# Altium schematic symbol library jlcpcb_2025_04_inductors_extended_1210.schlib: 422 symbols (part 8 of 8)
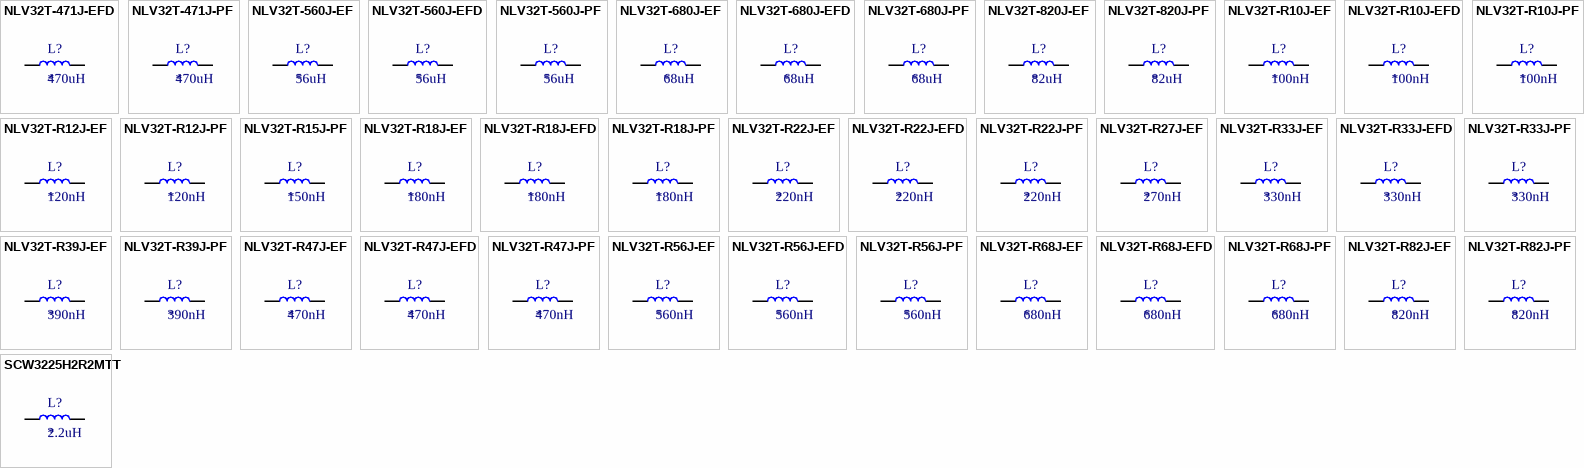
[diagram p17: symbols NLV32T-471J-EFD to SCW3225H2R2MTT]

## NLV32T-R27J-EF
designator L?  Inductance: 270nH
Inductor, 270nH, ±5%, 360mΩ, 450mA, SMD 1210; Manufacturer: TDK; Manufacturer Part Number: NLV32T-R27J-EF; Self-Resonant Frequency: 320MHz; Q Factor: 30@25.2MHz; Package Size: 1210; JLCPCB Basic Part: No; JLCPCB Part Number: C295167; Supplier 1: LCSC; Category: Inductors; Supplier Part Number 1: C295167; Tolerance: ±5%; Rated Current: 450mA; DC Resistance: 360mΩ; RoHS: Yes; ComponentLink1Description: Datasheet; ComponentLink1URL: https://wmsc.lcsc.com/wmsc/upload/file/pdf/v2/lcsc/2304140030_TDK-NLV32T-R27J-EF_C295167.pdf; ComponentLink2Description: JLCPCB Part URL; ComponentLink2URL: https://jlcpcb.com/partdetail/C295167; ComponentLink3Description: LCSC Part URL; ComponentLink3URL: https://lcsc.com/product-detail/Inductors-SMD_TDK-TDK-NLV32T-R27J-EF_C295167.html
footprint IND-1210 (1210 (3225M) Inductor)
pins: 1, 2

## NLV32T-R33J-EF
designator L?  Inductance: 330nH
Inductor, 330nH, ±5%, 400mΩ, 450mA, SMD 1210; Manufacturer: TDK; Manufacturer Part Number: NLV32T-R33J-EF; Self-Resonant Frequency: 300MHz; Q Factor: 30@25.2MHz; Package Size: 1210; JLCPCB Basic Part: No; JLCPCB Part Number: C295150; Supplier 1: LCSC; Category: Inductors; Supplier Part Number 1: C295150; Tolerance: ±5%; Rated Current: 450mA; DC Resistance: 400mΩ; RoHS: Yes; ComponentLink1Description: Datasheet; ComponentLink1URL: https://wmsc.lcsc.com/wmsc/upload/file/pdf/v2/lcsc/2304140030_TDK-NLV32T-R33J-EF_C295150.pdf; ComponentLink2Description: JLCPCB Part URL; ComponentLink2URL: https://jlcpcb.com/partdetail/C295150; ComponentLink3Description: LCSC Part URL; ComponentLink3URL: https://lcsc.com/product-detail/Inductors-SMD_TDK-TDK-NLV32T-R33J-EF_C295150.html
footprint IND-1210 (1210 (3225M) Inductor)
pins: 1, 2

## NLV32T-R33J-EFD
designator L?  Inductance: 330nH
Inductor, 330nH, ±5%, 400mΩ, 450mA, SMD 1210; Manufacturer: TDK; Manufacturer Part Number: NLV32T-R33J-EFD; Self-Resonant Frequency: 300MHz; Q Factor: 30@25.2MHz; Package Size: 1210; JLCPCB Basic Part: No; JLCPCB Part Number: C295307; Supplier 1: LCSC; Category: Inductors; Supplier Part Number 1: C295307; Tolerance: ±5%; Rated Current: 450mA; DC Resistance: 400mΩ; RoHS: Yes; ComponentLink1Description: Datasheet; ComponentLink1URL: https://wmsc.lcsc.com/wmsc/upload/file/pdf/v2/lcsc/2304140030_TDK-NLV32T-R33J-EFD_C295307.pdf; ComponentLink2Description: JLCPCB Part URL; ComponentLink2URL: https://jlcpcb.com/partdetail/C295307; ComponentLink3Description: LCSC Part URL; ComponentLink3URL: https://lcsc.com/product-detail/Inductors-SMD_TDK-TDK-NLV32T-R33J-EFD_C295307.html
footprint IND-1210 (1210 (3225M) Inductor)
pins: 1, 2

## NLV32T-R33J-PF
designator L?  Inductance: 330nH
Inductor, 330nH, ±5%, 400mΩ, 450mA, SMD 1210; Manufacturer: TDK; Manufacturer Part Number: NLV32T-R33J-PF; Self-Resonant Frequency: 300MHz; Q Factor: 30@25.2MHz; Package Size: 1210; JLCPCB Basic Part: No; JLCPCB Part Number: C250175; Supplier 1: LCSC; Category: Inductors; Supplier Part Number 1: C250175; Tolerance: ±5%; Rated Current: 450mA; DC Resistance: 400mΩ; RoHS: Yes; ComponentLink1Description: Datasheet; ComponentLink1URL: https://wmsc.lcsc.com/wmsc/upload/file/pdf/v2/lcsc/2304140030_TDK-NLV32T-R33J-PF_C250175.pdf; ComponentLink2Description: JLCPCB Part URL; ComponentLink2URL: https://jlcpcb.com/partdetail/C250175; ComponentLink3Description: LCSC Part URL; ComponentLink3URL: https://lcsc.com/product-detail/Inductors-SMD_TDK-TDK-NLV32T-R33J-PF_C250175.html
footprint IND-1210 (1210 (3225M) Inductor)
pins: 1, 2

## NLV32T-R39J-EF
designator L?  Inductance: 390nH
Inductor, 390nH, ±5%, 450mΩ, 450mA, SMD 1210; Manufacturer: TDK; Manufacturer Part Number: NLV32T-R39J-EF; Self-Resonant Frequency: 250MHz; Q Factor: 30@25.2MHz; Package Size: 1210; JLCPCB Basic Part: No; JLCPCB Part Number: C295121; Supplier 1: LCSC; Category: Inductors; Supplier Part Number 1: C295121; Tolerance: ±5%; Rated Current: 450mA; DC Resistance: 450mΩ; RoHS: Yes; ComponentLink1Description: Datasheet; ComponentLink1URL: https://wmsc.lcsc.com/wmsc/upload/file/pdf/v2/lcsc/2304140030_TDK-NLV32T-R39J-EF_C295121.pdf; ComponentLink2Description: JLCPCB Part URL; ComponentLink2URL: https://jlcpcb.com/partdetail/C295121; ComponentLink3Description: LCSC Part URL; ComponentLink3URL: https://lcsc.com/product-detail/Inductors-SMD_TDK-TDK-NLV32T-R39J-EF_C295121.html
footprint IND-1210 (1210 (3225M) Inductor)
pins: 1, 2

## NLV32T-R39J-PF
designator L?  Inductance: 390nH
Inductor, 390nH, ±5%, 450mΩ, 450mA, SMD 1210; Manufacturer: TDK; Manufacturer Part Number: NLV32T-R39J-PF; Self-Resonant Frequency: 250MHz; Q Factor: 30@25.2MHz; Package Size: 1210; JLCPCB Basic Part: No; JLCPCB Part Number: C89028; Supplier 1: LCSC; Category: Inductors; Supplier Part Number 1: C89028; Tolerance: ±5%; Rated Current: 450mA; DC Resistance: 450mΩ; RoHS: Yes; ComponentLink1Description: Datasheet; ComponentLink1URL: https://wmsc.lcsc.com/wmsc/upload/file/pdf/v2/lcsc/2304140030_TDK-NLV32T-R39J-PF_C89028.pdf; ComponentLink2Description: JLCPCB Part URL; ComponentLink2URL: https://jlcpcb.com/partdetail/C89028; ComponentLink3Description: LCSC Part URL; ComponentLink3URL: https://lcsc.com/product-detail/Inductors-SMD_TDK-TDK-NLV32T-R39J-PF_C89028.html
footprint IND-1210 (1210 (3225M) Inductor)
pins: 1, 2

## NLV32T-R47J-EF
designator L?  Inductance: 470nH
Inductor, 470nH, ±5%, 500mΩ, 450mA, SMD 1210; Manufacturer: TDK; Manufacturer Part Number: NLV32T-R47J-EF; Self-Resonant Frequency: 220MHz; Q Factor: 30@25.2MHz; Package Size: 1210; JLCPCB Basic Part: No; JLCPCB Part Number: C295151; Supplier 1: LCSC; Category: Inductors; Supplier Part Number 1: C295151; Tolerance: ±5%; Rated Current: 450mA; DC Resistance: 500mΩ; RoHS: Yes; ComponentLink1Description: Datasheet; ComponentLink1URL: https://wmsc.lcsc.com/wmsc/upload/file/pdf/v2/lcsc/2304140030_TDK-NLV32T-R47J-EF_C295151.pdf; ComponentLink2Description: JLCPCB Part URL; ComponentLink2URL: https://jlcpcb.com/partdetail/C295151; ComponentLink3Description: LCSC Part URL; ComponentLink3URL: https://lcsc.com/product-detail/Inductors-SMD_TDK-TDK-NLV32T-R47J-EF_C295151.html
footprint IND-1210 (1210 (3225M) Inductor)
pins: 1, 2

## NLV32T-R47J-EFD
designator L?  Inductance: 470nH
Inductor, 470nH, ±5%, 500mΩ, 450mA, SMD 1210; Manufacturer: TDK; Manufacturer Part Number: NLV32T-R47J-EFD; Self-Resonant Frequency: 220MHz; Q Factor: 30@25.2MHz; Package Size: 1210; JLCPCB Basic Part: No; JLCPCB Part Number: C295221; Supplier 1: LCSC; Category: Inductors; Supplier Part Number 1: C295221; Tolerance: ±5%; Rated Current: 450mA; DC Resistance: 500mΩ; RoHS: Yes; ComponentLink1Description: Datasheet; ComponentLink1URL: https://wmsc.lcsc.com/wmsc/upload/file/pdf/v2/lcsc/2304140030_TDK-NLV32T-R47J-EFD_C295221.pdf; ComponentLink2Description: JLCPCB Part URL; ComponentLink2URL: https://jlcpcb.com/partdetail/C295221; ComponentLink3Description: LCSC Part URL; ComponentLink3URL: https://lcsc.com/product-detail/Inductors-SMD_TDK-TDK-NLV32T-R47J-EFD_C295221.html
footprint IND-1210 (1210 (3225M) Inductor)
pins: 1, 2

## NLV32T-R47J-PF
designator L?  Inductance: 470nH
Inductor, 470nH, ±5%, 500mΩ, 450mA, SMD 1210; Manufacturer: TDK; Manufacturer Part Number: NLV32T-R47J-PF; Self-Resonant Frequency: 220MHz; Q Factor: 30@25.2MHz; Package Size: 1210; JLCPCB Basic Part: No; JLCPCB Part Number: C89029; Supplier 1: LCSC; Category: Inductors; Supplier Part Number 1: C89029; Tolerance: ±5%; Rated Current: 450mA; DC Resistance: 500mΩ; RoHS: Yes; ComponentLink1Description: Datasheet; ComponentLink1URL: https://wmsc.lcsc.com/wmsc/upload/file/pdf/v2/lcsc/2304140030_TDK-NLV32T-R47J-PF_C89029.pdf; ComponentLink2Description: JLCPCB Part URL; ComponentLink2URL: https://jlcpcb.com/partdetail/C89029; ComponentLink3Description: LCSC Part URL; ComponentLink3URL: https://lcsc.com/product-detail/Inductors-SMD_TDK-TDK-NLV32T-R47J-PF_C89029.html
footprint IND-1210 (1210 (3225M) Inductor)
pins: 1, 2

## NLV32T-R56J-EF
designator L?  Inductance: 560nH
Inductor, 560nH, ±5%, 550mΩ, 450mA, SMD 1210; Manufacturer: TDK; Manufacturer Part Number: NLV32T-R56J-EF; Self-Resonant Frequency: 180MHz; Q Factor: 30@25.2MHz; Package Size: 1210; JLCPCB Basic Part: No; JLCPCB Part Number: C295112; Supplier 1: LCSC; Category: Inductors; Supplier Part Number 1: C295112; Tolerance: ±5%; Rated Current: 450mA; DC Resistance: 550mΩ; RoHS: Yes; ComponentLink1Description: Datasheet; ComponentLink1URL: https://wmsc.lcsc.com/wmsc/upload/file/pdf/v2/lcsc/2304140030_TDK-NLV32T-R56J-EF_C295112.pdf; ComponentLink2Description: JLCPCB Part URL; ComponentLink2URL: https://jlcpcb.com/partdetail/C295112; ComponentLink3Description: LCSC Part URL; ComponentLink3URL: https://lcsc.com/product-detail/Inductors-SMD_TDK-TDK-NLV32T-R56J-EF_C295112.html
footprint IND-1210 (1210 (3225M) Inductor)
pins: 1, 2

## NLV32T-R56J-EFD
designator L?  Inductance: 560nH
Inductor, 560nH, ±5%, 550mΩ, 450mA, SMD 1210; Manufacturer: TDK; Manufacturer Part Number: NLV32T-R56J-EFD; Self-Resonant Frequency: 180MHz; Q Factor: 30@25.2MHz; Package Size: 1210; JLCPCB Basic Part: No; JLCPCB Part Number: C295230; Supplier 1: LCSC; Category: Inductors; Supplier Part Number 1: C295230; Tolerance: ±5%; Rated Current: 450mA; DC Resistance: 550mΩ; RoHS: Yes; ComponentLink1Description: Datasheet; ComponentLink1URL: https://wmsc.lcsc.com/wmsc/upload/file/pdf/v2/lcsc/2304140030_TDK-NLV32T-R56J-EFD_C295230.pdf; ComponentLink2Description: JLCPCB Part URL; ComponentLink2URL: https://jlcpcb.com/partdetail/C295230; ComponentLink3Description: LCSC Part URL; ComponentLink3URL: https://lcsc.com/product-detail/Inductors-SMD_TDK-TDK-NLV32T-R56J-EFD_C295230.html
footprint IND-1210 (1210 (3225M) Inductor)
pins: 1, 2

## NLV32T-R56J-PF
designator L?  Inductance: 560nH
Inductor, 560nH, ±5%, 550mΩ, 450mA, SMD 1210; Manufacturer: TDK; Manufacturer Part Number: NLV32T-R56J-PF; Self-Resonant Frequency: 180MHz; Q Factor: 30@25.2MHz; Package Size: 1210; JLCPCB Basic Part: No; JLCPCB Part Number: C89030; Supplier 1: LCSC; Category: Inductors; Supplier Part Number 1: C89030; Tolerance: ±5%; Rated Current: 450mA; DC Resistance: 550mΩ; RoHS: Yes; ComponentLink1Description: Datasheet; ComponentLink1URL: https://wmsc.lcsc.com/wmsc/upload/file/pdf/v2/lcsc/2304140030_TDK-NLV32T-R56J-PF_C89030.pdf; ComponentLink2Description: JLCPCB Part URL; ComponentLink2URL: https://jlcpcb.com/partdetail/C89030; ComponentLink3Description: LCSC Part URL; ComponentLink3URL: https://lcsc.com/product-detail/Inductors-SMD_TDK-TDK-NLV32T-R56J-PF_C89030.html
footprint IND-1210 (1210 (3225M) Inductor)
pins: 1, 2

## NLV32T-R68J-EF
designator L?  Inductance: 680nH
Inductor, 680nH, ±5%, 600mΩ, 450mA, SMD 1210; Manufacturer: TDK; Manufacturer Part Number: NLV32T-R68J-EF; Self-Resonant Frequency: 160MHz; Q Factor: 30@25.2MHz; Package Size: 1210; JLCPCB Basic Part: No; JLCPCB Part Number: C295176; Supplier 1: LCSC; Category: Inductors; Supplier Part Number 1: C295176; Tolerance: ±5%; Rated Current: 450mA; DC Resistance: 600mΩ; RoHS: Yes; ComponentLink1Description: Datasheet; ComponentLink1URL: https://wmsc.lcsc.com/wmsc/upload/file/pdf/v2/lcsc/2304140030_TDK-NLV32T-R68J-EF_C295176.pdf; ComponentLink2Description: JLCPCB Part URL; ComponentLink2URL: https://jlcpcb.com/partdetail/C295176; ComponentLink3Description: LCSC Part URL; ComponentLink3URL: https://lcsc.com/product-detail/Inductors-SMD_TDK-TDK-NLV32T-R68J-EF_C295176.html
footprint IND-1210 (1210 (3225M) Inductor)
pins: 1, 2

## NLV32T-R68J-EFD
designator L?  Inductance: 680nH
Inductor, 680nH, ±5%, 600mΩ, 450mA, SMD 1210; Manufacturer: TDK; Manufacturer Part Number: NLV32T-R68J-EFD; Self-Resonant Frequency: 160MHz; Q Factor: 30@25.2MHz; Package Size: 1210; JLCPCB Basic Part: No; JLCPCB Part Number: C295209; Supplier 1: LCSC; Category: Inductors; Supplier Part Number 1: C295209; Tolerance: ±5%; Rated Current: 450mA; DC Resistance: 600mΩ; RoHS: Yes; ComponentLink1Description: Datasheet; ComponentLink1URL: https://wmsc.lcsc.com/wmsc/upload/file/pdf/v2/lcsc/2304140030_TDK-NLV32T-R68J-EFD_C295209.pdf; ComponentLink2Description: JLCPCB Part URL; ComponentLink2URL: https://jlcpcb.com/partdetail/C295209; ComponentLink3Description: LCSC Part URL; ComponentLink3URL: https://lcsc.com/product-detail/Inductors-SMD_TDK-TDK-NLV32T-R68J-EFD_C295209.html
footprint IND-1210 (1210 (3225M) Inductor)
pins: 1, 2

## NLV32T-R68J-PF
designator L?  Inductance: 680nH
Inductor, 680nH, ±5%, 600mΩ, 450mA, SMD 1210; Manufacturer: TDK; Manufacturer Part Number: NLV32T-R68J-PF; Self-Resonant Frequency: 160MHz; Q Factor: 30@25.2MHz; Package Size: 1210; JLCPCB Basic Part: No; JLCPCB Part Number: C89031; Supplier 1: LCSC; Category: Inductors; Supplier Part Number 1: C89031; Tolerance: ±5%; Rated Current: 450mA; DC Resistance: 600mΩ; RoHS: Yes; ComponentLink1Description: Datasheet; ComponentLink1URL: https://wmsc.lcsc.com/wmsc/upload/file/pdf/v2/lcsc/2304140030_TDK-NLV32T-R68J-PF_C89031.pdf; ComponentLink2Description: JLCPCB Part URL; ComponentLink2URL: https://jlcpcb.com/partdetail/C89031; ComponentLink3Description: LCSC Part URL; ComponentLink3URL: https://lcsc.com/product-detail/Inductors-SMD_TDK-TDK-NLV32T-R68J-PF_C89031.html
footprint IND-1210 (1210 (3225M) Inductor)
pins: 1, 2

## NLV32T-R82J-EF
designator L?  Inductance: 820nH
Inductor, 820nH, ±5%, 650mΩ, 450mA, SMD 1210; Manufacturer: TDK; Manufacturer Part Number: NLV32T-R82J-EF; Self-Resonant Frequency: 140MHz; Q Factor: 30@25.2MHz; Package Size: 1210; JLCPCB Basic Part: No; JLCPCB Part Number: C295116; Supplier 1: LCSC; Category: Inductors; Supplier Part Number 1: C295116; Tolerance: ±5%; Rated Current: 450mA; DC Resistance: 650mΩ; RoHS: Yes; ComponentLink1Description: Datasheet; ComponentLink1URL: https://wmsc.lcsc.com/wmsc/upload/file/pdf/v2/lcsc/2304140030_TDK-NLV32T-R82J-EF_C295116.pdf; ComponentLink2Description: JLCPCB Part URL; ComponentLink2URL: https://jlcpcb.com/partdetail/C295116; ComponentLink3Description: LCSC Part URL; ComponentLink3URL: https://lcsc.com/product-detail/Inductors-SMD_TDK-TDK-NLV32T-R82J-EF_C295116.html
footprint IND-1210 (1210 (3225M) Inductor)
pins: 1, 2

## NLV32T-R82J-PF
designator L?  Inductance: 820nH
Inductor, 820nH, ±5%, 650mΩ, 450mA, SMD 1210; Manufacturer: TDK; Manufacturer Part Number: NLV32T-R82J-PF; Self-Resonant Frequency: 140MHz; Q Factor: 30@25.2MHz; Package Size: 1210; JLCPCB Basic Part: No; JLCPCB Part Number: C89032; Supplier 1: LCSC; Category: Inductors; Supplier Part Number 1: C89032; Tolerance: ±5%; Rated Current: 450mA; DC Resistance: 650mΩ; RoHS: Yes; ComponentLink1Description: Datasheet; ComponentLink1URL: https://wmsc.lcsc.com/wmsc/upload/file/pdf/v2/lcsc/1811111614_TDK-NLV32T-R82J-PF_C89032.pdf; ComponentLink2Description: JLCPCB Part URL; ComponentLink2URL: https://jlcpcb.com/partdetail/C89032; ComponentLink3Description: LCSC Part URL; ComponentLink3URL: https://lcsc.com/product-detail/Inductors-SMD_TDK-TDK-NLV32T-R82J-PF_C89032.html
footprint IND-1210 (1210 (3225M) Inductor)
pins: 1, 2

## SCW3225H2R2MTT
designator L?  Inductance: 2.2uH
Inductor, 2.2uH, ±20%, 260mΩ, 480mA, SMD 1210; Manufacturer: Sunltech Tech; Manufacturer Part Number: SCW3225H2R2MTT; Self-Resonant Frequency: 65MHz; Q Factor: 10@7.96MHz; Package Size: 1210; JLCPCB Basic Part: No; JLCPCB Part Number: C2842776; Supplier 1: LCSC; Category: Inductors; Supplier Part Number 1: C2842776; Tolerance: ±20%; Rated Current: 480mA; DC Resistance: 260mΩ; RoHS: Yes; ComponentLink1Description: Datasheet; ComponentLink1URL: https://wmsc.lcsc.com/wmsc/upload/file/pdf/v2/lcsc/2304140030_Sunltech-Tech-SCW3225H2R2MTT_C2842776.pdf; ComponentLink2Description: JLCPCB Part URL; ComponentLink2URL: https://jlcpcb.com/partdetail/C2842776; ComponentLink3Description: LCSC Part URL; ComponentLink3URL: https://lcsc.com/product-detail/Inductors-SMD_Sunltech-Tech-Sunltech-Tech-SCW3225H2R2MTT_C2842776.html
footprint IND-1210 (1210 (3225M) Inductor)
pins: 1, 2

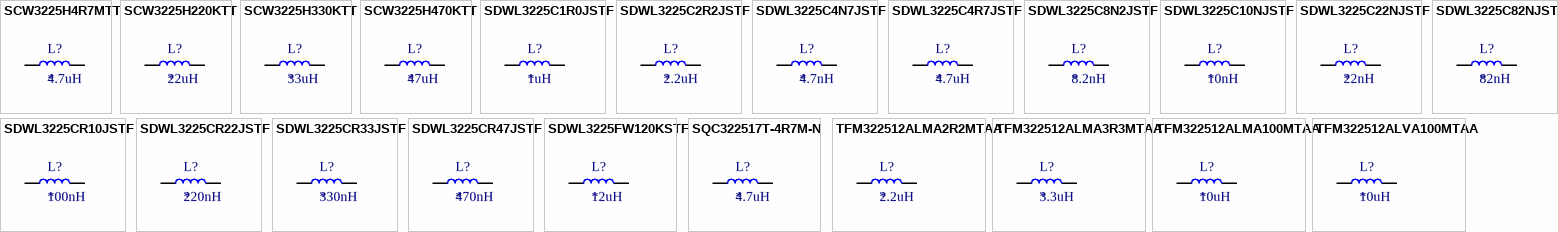
[diagram p10: symbols SCW3225H4R7MTT to TFM322512ALVA100MTAA]

## SCW3225H4R7MTT
designator L?  Inductance: 4.7uH
Inductor, 4.7uH, ±20%, 520mΩ, 320mA, SMD 1210; Manufacturer: Sunltech Tech; Manufacturer Part Number: SCW3225H4R7MTT; Self-Resonant Frequency: 45MHz; Q Factor: 10@7.96MHz; Package Size: 1210; JLCPCB Basic Part: No; JLCPCB Part Number: C2842779; Supplier 1: LCSC; Category: Inductors; Supplier Part Number 1: C2842779; Tolerance: ±20%; Rated Current: 320mA; DC Resistance: 520mΩ; RoHS: Yes; ComponentLink1Description: Datasheet; ComponentLink1URL: https://wmsc.lcsc.com/wmsc/upload/file/pdf/v2/lcsc/2304140030_Sunltech-Tech-SCW3225H4R7MTT_C2842779.pdf; ComponentLink2Description: JLCPCB Part URL; ComponentLink2URL: https://jlcpcb.com/partdetail/C2842779; ComponentLink3Description: LCSC Part URL; ComponentLink3URL: https://lcsc.com/product-detail/Inductors-SMD_Sunltech-Tech-Sunltech-Tech-SCW3225H4R7MTT_C2842779.html
footprint IND-1210 (1210 (3225M) Inductor)
pins: 1, 2

## SCW3225H220KTT
designator L?  Inductance: 22uH
Inductor, 22uH, ±10%, 2.6Ω, 145mA, SMD 1210; Manufacturer: Sunltech Tech; Manufacturer Part Number: SCW3225H220KTT; Self-Resonant Frequency: 20MHz; Q Factor: 15@2.52MHz; Package Size: 1210; JLCPCB Basic Part: No; JLCPCB Part Number: C2842781; Supplier 1: LCSC; Category: Inductors; Supplier Part Number 1: C2842781; Tolerance: ±10%; Rated Current: 145mA; DC Resistance: 2.6Ω; RoHS: Yes; ComponentLink1Description: Datasheet; ComponentLink1URL: https://wmsc.lcsc.com/wmsc/upload/file/pdf/v2/lcsc/2304140030_Sunltech-Tech-SCW3225H220KTT_C2842781.pdf; ComponentLink2Description: JLCPCB Part URL; ComponentLink2URL: https://jlcpcb.com/partdetail/C2842781; ComponentLink3Description: LCSC Part URL; ComponentLink3URL: https://lcsc.com/product-detail/Inductors-SMD_Sunltech-Tech-Sunltech-Tech-SCW3225H220KTT_C2842781.html
footprint IND-1210 (1210 (3225M) Inductor)
pins: 1, 2

## SCW3225H330KTT
designator L?  Inductance: 33uH
Inductor, 33uH, ±10%, 3.64Ω, 115mA, SMD 1210; Manufacturer: Sunltech Tech; Manufacturer Part Number: SCW3225H330KTT; Self-Resonant Frequency: 15MHz; Q Factor: 15@2.52MHz; Package Size: 1210; JLCPCB Basic Part: No; JLCPCB Part Number: C2842782; Supplier 1: LCSC; Category: Inductors; Supplier Part Number 1: C2842782; Tolerance: ±10%; Rated Current: 115mA; DC Resistance: 3.64Ω; RoHS: Yes; ComponentLink1Description: Datasheet; ComponentLink1URL: https://wmsc.lcsc.com/wmsc/upload/file/pdf/v2/lcsc/2304140030_Sunltech-Tech-SCW3225H330KTT_C2842782.pdf; ComponentLink2Description: JLCPCB Part URL; ComponentLink2URL: https://jlcpcb.com/partdetail/C2842782; ComponentLink3Description: LCSC Part URL; ComponentLink3URL: https://lcsc.com/product-detail/Inductors-SMD_Sunltech-Tech-Sunltech-Tech-SCW3225H330KTT_C2842782.html
footprint IND-1210 (1210 (3225M) Inductor)
pins: 1, 2

## SCW3225H470KTT
designator L?  Inductance: 47uH
Inductor, 47uH, ±10%, 5.46Ω, 105mA, SMD 1210; Manufacturer: Sunltech Tech; Manufacturer Part Number: SCW3225H470KTT; Self-Resonant Frequency: 13MHz; Q Factor: 15@2.52MHz; Package Size: 1210; JLCPCB Basic Part: No; JLCPCB Part Number: C2842783; Supplier 1: LCSC; Category: Inductors; Supplier Part Number 1: C2842783; Tolerance: ±10%; Rated Current: 105mA; DC Resistance: 5.46Ω; RoHS: Yes; ComponentLink1Description: Datasheet; ComponentLink1URL: https://wmsc.lcsc.com/wmsc/upload/file/pdf/v2/lcsc/2304140030_Sunltech-Tech-SCW3225H470KTT_C2842783.pdf; ComponentLink2Description: JLCPCB Part URL; ComponentLink2URL: https://jlcpcb.com/partdetail/C2842783; ComponentLink3Description: LCSC Part URL; ComponentLink3URL: https://lcsc.com/product-detail/Inductors-SMD_Sunltech-Tech-Sunltech-Tech-SCW3225H470KTT_C2842783.html
footprint IND-1210 (1210 (3225M) Inductor)
pins: 1, 2

## SDWL3225C1R0JSTF
designator L?  Inductance: 1uH
Inductor, 1uH, ±5%, 1.85Ω, 320mA, SMD 1210; Manufacturer: Sunlord; Manufacturer Part Number: SDWL3225C1R0JSTF; Self-Resonant Frequency: 340MHz; Q Factor: 45@150MHz; Package Size: 1210; JLCPCB Basic Part: No; JLCPCB Part Number: C709628; Supplier 1: LCSC; Category: Inductors; Supplier Part Number 1: C709628; Tolerance: ±5%; Rated Current: 320mA; DC Resistance: 1.85Ω; RoHS: Yes; ComponentLink1Description: Datasheet; ComponentLink1URL: https://wmsc.lcsc.com/wmsc/upload/file/pdf/v2/lcsc/2310301641_Sunlord-SDWL3225C1R0JSTF_C709628.pdf; ComponentLink2Description: JLCPCB Part URL; ComponentLink2URL: https://jlcpcb.com/partdetail/C709628; ComponentLink3Description: LCSC Part URL; ComponentLink3URL: https://lcsc.com/product-detail/Inductors-SMD_Sunlord-Sunlord-SDWL3225C1R0JSTF_C709628.html
footprint IND-1210 (1210 (3225M) Inductor)
pins: 1, 2

## SDWL3225C2R2JSTF
designator L?  Inductance: 2.2uH
Inductor, 2.2uH, ±5%, 2.41Ω, 310mA, SMD 1210; Manufacturer: Sunlord; Manufacturer Part Number: SDWL3225C2R2JSTF; Self-Resonant Frequency: 130MHz; Q Factor: 25@50MHz; Package Size: 1210; JLCPCB Basic Part: No; JLCPCB Part Number: C709630; Supplier 1: LCSC; Category: Inductors; Supplier Part Number 1: C709630; Tolerance: ±5%; Rated Current: 310mA; DC Resistance: 2.41Ω; RoHS: Yes; ComponentLink1Description: Datasheet; ComponentLink1URL: https://wmsc.lcsc.com/wmsc/upload/file/pdf/v2/lcsc/2310301641_Sunlord-SDWL3225C2R2JSTF_C709630.pdf; ComponentLink2Description: JLCPCB Part URL; ComponentLink2URL: https://jlcpcb.com/partdetail/C709630; ComponentLink3Description: LCSC Part URL; ComponentLink3URL: https://lcsc.com/product-detail/Inductors-SMD_Sunlord-Sunlord-SDWL3225C2R2JSTF_C709630.html
footprint IND-1210 (1210 (3225M) Inductor)
pins: 1, 2

## SDWL3225C4N7JSTF
designator L?  Inductance: 4.7nH
Inductor, 4.7nH, ±5%, 65mΩ, 1A, SMD 1210; Manufacturer: Sunlord; Manufacturer Part Number: SDWL3225C4N7JSTF; Self-Resonant Frequency: 5.8GHz; Q Factor: 30@300MHz; Package Size: 1210; JLCPCB Basic Part: No; JLCPCB Part Number: C709633; Supplier 1: LCSC; Category: Inductors; Supplier Part Number 1: C709633; Tolerance: ±5%; Rated Current: 1A; DC Resistance: 65mΩ; RoHS: Yes; ComponentLink1Description: Datasheet; ComponentLink1URL: https://wmsc.lcsc.com/wmsc/upload/file/pdf/v2/lcsc/2310301641_Sunlord-SDWL3225C4N7JSTF_C709633.pdf; ComponentLink2Description: JLCPCB Part URL; ComponentLink2URL: https://jlcpcb.com/partdetail/C709633; ComponentLink3Description: LCSC Part URL; ComponentLink3URL: https://lcsc.com/product-detail/Inductors-SMD_Sunlord-Sunlord-SDWL3225C4N7JSTF_C709633.html
footprint IND-1210 (1210 (3225M) Inductor)
pins: 1, 2

## SDWL3225C4R7JSTF
designator L?  Inductance: 4.7uH
Inductor, 4.7uH, ±5%, 4Ω, 280mA, SMD 1210; Manufacturer: Sunlord; Manufacturer Part Number: SDWL3225C4R7JSTF; Self-Resonant Frequency: 60MHz; Q Factor: 20@25MHz; Package Size: 1210; JLCPCB Basic Part: No; JLCPCB Part Number: C709634; Supplier 1: LCSC; Category: Inductors; Supplier Part Number 1: C709634; Tolerance: ±5%; Rated Current: 280mA; DC Resistance: 4Ω; RoHS: Yes; ComponentLink1Description: Datasheet; ComponentLink1URL: https://wmsc.lcsc.com/wmsc/upload/file/pdf/v2/lcsc/2310301641_Sunlord-SDWL3225C4R7JSTF_C709634.pdf; ComponentLink2Description: JLCPCB Part URL; ComponentLink2URL: https://jlcpcb.com/partdetail/C709634; ComponentLink3Description: LCSC Part URL; ComponentLink3URL: https://lcsc.com/product-detail/Inductors-SMD_Sunlord-Sunlord-SDWL3225C4R7JSTF_C709634.html
footprint IND-1210 (1210 (3225M) Inductor)
pins: 1, 2

## SDWL3225C8N2JSTF
designator L?  Inductance: 8.2nH
Inductor, 8.2nH, ±5%, 70mΩ, 1A, SMD 1210; Manufacturer: Sunlord; Manufacturer Part Number: SDWL3225C8N2JSTF; Self-Resonant Frequency: 5.5GHz; Q Factor: 30@300MHz; Package Size: 1210; JLCPCB Basic Part: No; JLCPCB Part Number: C709636; Supplier 1: LCSC; Category: Inductors; Supplier Part Number 1: C709636; Tolerance: ±5%; Rated Current: 1A; DC Resistance: 70mΩ; RoHS: Yes; ComponentLink1Description: Datasheet; ComponentLink1URL: https://wmsc.lcsc.com/wmsc/upload/file/pdf/v2/lcsc/2310301641_Sunlord-SDWL3225C8N2JSTF_C709636.pdf; ComponentLink2Description: JLCPCB Part URL; ComponentLink2URL: https://jlcpcb.com/partdetail/C709636; ComponentLink3Description: LCSC Part URL; ComponentLink3URL: https://lcsc.com/product-detail/Inductors-SMD_Sunlord-Sunlord-SDWL3225C8N2JSTF_C709636.html
footprint IND-1210 (1210 (3225M) Inductor)
pins: 1, 2

## SDWL3225C10NJSTF
designator L?  Inductance: 10nH
Inductor, 10nH, ±5%, 80mΩ, 1A, SMD 1210; Manufacturer: Sunlord; Manufacturer Part Number: SDWL3225C10NJSTF; Self-Resonant Frequency: 4GHz; Q Factor: 40@300MHz; Package Size: 1210; JLCPCB Basic Part: No; JLCPCB Part Number: C709627; Supplier 1: LCSC; Category: Inductors; Supplier Part Number 1: C709627; Tolerance: ±5%; Rated Current: 1A; DC Resistance: 80mΩ; RoHS: Yes; ComponentLink1Description: Datasheet; ComponentLink1URL: https://wmsc.lcsc.com/wmsc/upload/file/pdf/v2/lcsc/2310301641_Sunlord-SDWL3225C10NJSTF_C709627.pdf; ComponentLink2Description: JLCPCB Part URL; ComponentLink2URL: https://jlcpcb.com/partdetail/C709627; ComponentLink3Description: LCSC Part URL; ComponentLink3URL: https://lcsc.com/product-detail/Inductors-SMD_Sunlord-Sunlord-SDWL3225C10NJSTF_C709627.html
footprint IND-1210 (1210 (3225M) Inductor)
pins: 1, 2

## SDWL3225C22NJSTF
designator L?  Inductance: 22nH
Inductor, 22nH, ±5%, 100mΩ, 1A, SMD 1210; Manufacturer: Sunlord; Manufacturer Part Number: SDWL3225C22NJSTF; Self-Resonant Frequency: 2.2GHz; Q Factor: 50@300MHz; Package Size: 1210; JLCPCB Basic Part: No; JLCPCB Part Number: C709629; Supplier 1: LCSC; Category: Inductors; Supplier Part Number 1: C709629; Tolerance: ±5%; Rated Current: 1A; DC Resistance: 100mΩ; RoHS: Yes; ComponentLink1Description: Datasheet; ComponentLink1URL: https://wmsc.lcsc.com/wmsc/upload/file/pdf/v2/lcsc/2310301641_Sunlord-SDWL3225C22NJSTF_C709629.pdf; ComponentLink2Description: JLCPCB Part URL; ComponentLink2URL: https://jlcpcb.com/partdetail/C709629; ComponentLink3Description: LCSC Part URL; ComponentLink3URL: https://lcsc.com/product-detail/Inductors-SMD_Sunlord-Sunlord-SDWL3225C22NJSTF_C709629.html
footprint IND-1210 (1210 (3225M) Inductor)
pins: 1, 2

## SDWL3225C82NJSTF
designator L?  Inductance: 82nH
Inductor, 82nH, ±5%, 200mΩ, 900mA, SMD 1210; Manufacturer: Sunlord; Manufacturer Part Number: SDWL3225C82NJSTF; Self-Resonant Frequency: 1GHz; Q Factor: 55@300MHz; Package Size: 1210; JLCPCB Basic Part: No; JLCPCB Part Number: C709635; Supplier 1: LCSC; Category: Inductors; Supplier Part Number 1: C709635; Tolerance: ±5%; Rated Current: 900mA; DC Resistance: 200mΩ; RoHS: Yes; ComponentLink1Description: Datasheet; ComponentLink1URL: https://wmsc.lcsc.com/wmsc/upload/file/pdf/v2/lcsc/2310301641_Sunlord-SDWL3225C82NJSTF_C709635.pdf; ComponentLink2Description: JLCPCB Part URL; ComponentLink2URL: https://jlcpcb.com/partdetail/C709635; ComponentLink3Description: LCSC Part URL; ComponentLink3URL: https://lcsc.com/product-detail/Inductors-SMD_Sunlord-Sunlord-SDWL3225C82NJSTF_C709635.html
footprint IND-1210 (1210 (3225M) Inductor)
pins: 1, 2

## SDWL3225CR10JSTF
designator L?  Inductance: 100nH
Inductor, 100nH, ±5%, 200mΩ, 850mA, SMD 1210; Manufacturer: Sunlord; Manufacturer Part Number: SDWL3225CR10JSTF; Self-Resonant Frequency: 900MHz; Q Factor: 55@300MHz; Package Size: 1210; JLCPCB Basic Part: No; JLCPCB Part Number: C709637; Supplier 1: LCSC; Category: Inductors; Supplier Part Number 1: C709637; Tolerance: ±5%; Rated Current: 850mA; DC Resistance: 200mΩ; RoHS: Yes; ComponentLink1Description: Datasheet; ComponentLink1URL: https://wmsc.lcsc.com/wmsc/upload/file/pdf/v2/lcsc/2310301641_Sunlord-SDWL3225CR10JSTF_C709637.pdf; ComponentLink2Description: JLCPCB Part URL; ComponentLink2URL: https://jlcpcb.com/partdetail/C709637; ComponentLink3Description: LCSC Part URL; ComponentLink3URL: https://lcsc.com/product-detail/Inductors-SMD_Sunlord-Sunlord-SDWL3225CR10JSTF_C709637.html
footprint IND-1210 (1210 (3225M) Inductor)
pins: 1, 2

## SDWL3225CR22JSTF
designator L?  Inductance: 220nH
Inductor, 220nH, ±5%, 400mΩ, 770mA, SMD 1210; Manufacturer: Sunlord; Manufacturer Part Number: SDWL3225CR22JSTF; Self-Resonant Frequency: 650MHz; Q Factor: 60@300MHz; Package Size: 1210; JLCPCB Basic Part: No; JLCPCB Part Number: C709638; Supplier 1: LCSC; Category: Inductors; Supplier Part Number 1: C709638; Tolerance: ±5%; Rated Current: 770mA; DC Resistance: 400mΩ; RoHS: Yes; ComponentLink1Description: Datasheet; ComponentLink1URL: https://wmsc.lcsc.com/wmsc/upload/file/pdf/v2/lcsc/2310301641_Sunlord-SDWL3225CR22JSTF_C709638.pdf; ComponentLink2Description: JLCPCB Part URL; ComponentLink2URL: https://jlcpcb.com/partdetail/C709638; ComponentLink3Description: LCSC Part URL; ComponentLink3URL: https://lcsc.com/product-detail/Inductors-SMD_Sunlord-Sunlord-SDWL3225CR22JSTF_C709638.html
footprint IND-1210 (1210 (3225M) Inductor)
pins: 1, 2

## SDWL3225CR33JSTF
designator L?  Inductance: 330nH
Inductor, 330nH, ±5%, SMD 1210; Manufacturer: Sunlord; Manufacturer Part Number: SDWL3225CR33JSTF; Package Size: 1210; JLCPCB Basic Part: No; JLCPCB Part Number: C709639; Supplier 1: LCSC; Category: Inductors; Supplier Part Number 1: C709639; Tolerance: ±5%; RoHS: Yes; ComponentLink1Description: Datasheet; ComponentLink1URL: https://wmsc.lcsc.com/wmsc/upload/file/pdf/v2/lcsc/2310301641_Sunlord-SDWL3225CR33JSTF_C709639.pdf; ComponentLink2Description: JLCPCB Part URL; ComponentLink2URL: https://jlcpcb.com/partdetail/C709639; ComponentLink3Description: LCSC Part URL; ComponentLink3URL: https://lcsc.com/product-detail/Inductors-SMD_Sunlord-Sunlord-SDWL3225CR33JSTF_C709639.html
footprint IND-1210 (1210 (3225M) Inductor)
pins: 1, 2

## SDWL3225CR47JSTF
designator L?  Inductance: 470nH
Inductor, 470nH, ±5%, 800mΩ, 490mA, SMD 1210; Manufacturer: Sunlord; Manufacturer Part Number: SDWL3225CR47JSTF; Self-Resonant Frequency: 480MHz; Q Factor: 45@150MHz; Package Size: 1210; JLCPCB Basic Part: No; JLCPCB Part Number: C709640; Supplier 1: LCSC; Category: Inductors; Supplier Part Number 1: C709640; Tolerance: ±5%; Rated Current: 490mA; DC Resistance: 800mΩ; RoHS: Yes; ComponentLink1Description: Datasheet; ComponentLink1URL: https://wmsc.lcsc.com/wmsc/upload/file/pdf/v2/lcsc/2310301641_Sunlord-SDWL3225CR47JSTF_C709640.pdf; ComponentLink2Description: JLCPCB Part URL; ComponentLink2URL: https://jlcpcb.com/partdetail/C709640; ComponentLink3Description: LCSC Part URL; ComponentLink3URL: https://lcsc.com/product-detail/Inductors-SMD_Sunlord-Sunlord-SDWL3225CR47JSTF_C709640.html
footprint IND-1210 (1210 (3225M) Inductor)
pins: 1, 2

## SDWL3225FW120KSTF
designator L?  Inductance: 12uH
Inductor, 12uH, ±10%, 2.5Ω, 140mA, SMD 1210; Manufacturer: Sunlord; Manufacturer Part Number: SDWL3225FW120KSTF; Package Size: 1210; JLCPCB Basic Part: No; JLCPCB Part Number: C431697; Supplier 1: LCSC; Category: Inductors; Supplier Part Number 1: C431697; Tolerance: ±10%; Rated Current: 140mA; DC Resistance: 2.5Ω; RoHS: Yes; ComponentLink1Description: Datasheet; ComponentLink1URL: https://wmsc.lcsc.com/wmsc/upload/file/pdf/v2/lcsc/2310301641_Sunlord-SDWL3225FW120KSTF_C431697.pdf; ComponentLink2Description: JLCPCB Part URL; ComponentLink2URL: https://jlcpcb.com/partdetail/C431697; ComponentLink3Description: LCSC Part URL; ComponentLink3URL: https://lcsc.com/product-detail/Inductors-SMD_Sunlord-Sunlord-SDWL3225FW120KSTF_C431697.html
footprint IND-1210 (1210 (3225M) Inductor)
pins: 1, 2

## SQC322517T-4R7M-N
designator L?  Inductance: 4.7uH
Inductor, 4.7uH, ±20%, 200mΩ, 600mA, SMD 1210; Manufacturer: Chilisin Elec; Manufacturer Part Number: SQC322517T-4R7M-N; Package Size: 1210; JLCPCB Basic Part: No; JLCPCB Part Number: C285606; Supplier 1: LCSC; Category: Inductors; Supplier Part Number 1: C285606; Tolerance: ±20%; Rated Current: 600mA; DC Resistance: 200mΩ; RoHS: Yes; ComponentLink1Description: Datasheet; ComponentLink2Description: JLCPCB Part URL; ComponentLink2URL: https://jlcpcb.com/partdetail/C285606; ComponentLink3Description: LCSC Part URL; ComponentLink3URL: https://lcsc.com/product-detail/Inductors-SMD_Chilisin-Elec-Chilisin-Elec-SQC322517T-4R7M-N_C285606.html
footprint IND-1210 (1210 (3225M) Inductor)
pins: 1, 2

## TFM322512ALMA2R2MTAA
designator L?  Inductance: 2.2uH
Inductor, 2.2uH, ±20%, 77mΩ, 2.7A, SMD 1210; Manufacturer: TDK; Manufacturer Part Number: TFM322512ALMA2R2MTAA; Saturation Current: 3.3A; Package Size: 1210; JLCPCB Basic Part: No; JLCPCB Part Number: C5331030; Supplier 1: LCSC; Category: Inductors; Supplier Part Number 1: C5331030; Tolerance: ±20%; Rated Current: 2.7A; DC Resistance: 77mΩ; RoHS: Yes; ComponentLink1Description: Datasheet; ComponentLink1URL: https://wmsc.lcsc.com/wmsc/upload/file/pdf/v2/lcsc/2212150930_TDK-TFM322512ALMA2R2MTAA_C5331030.pdf; ComponentLink2Description: JLCPCB Part URL; ComponentLink2URL: https://jlcpcb.com/partdetail/C5331030; ComponentLink3Description: LCSC Part URL; ComponentLink3URL: https://lcsc.com/product-detail/Inductors-SMD_TDK-TDK-TFM322512ALMA2R2MTAA_C5331030.html
footprint IND-1210 (1210 (3225M) Inductor)
pins: 1, 2

## TFM322512ALMA3R3MTAA
designator L?  Inductance: 3.3uH
Inductor, 3.3uH, ±20%, 97mΩ, 2.5A, SMD 1210; Manufacturer: TDK; Manufacturer Part Number: TFM322512ALMA3R3MTAA; Package Size: 1210; JLCPCB Basic Part: No; JLCPCB Part Number: C2047622; Supplier 1: LCSC; Category: Inductors; Supplier Part Number 1: C2047622; Tolerance: ±20%; Rated Current: 2.5A; Saturation Current: 2.5A; DC Resistance: 97mΩ; RoHS: Yes; ComponentLink1Description: Datasheet; ComponentLink1URL: https://wmsc.lcsc.com/wmsc/upload/file/pdf/v2/lcsc/2304140030_TDK-TFM322512ALMA3R3MTAA_C2047622.pdf; ComponentLink2Description: JLCPCB Part URL; ComponentLink2URL: https://jlcpcb.com/partdetail/C2047622; ComponentLink3Description: LCSC Part URL; ComponentLink3URL: https://lcsc.com/product-detail/Inductors-SMD_TDK-TDK-TFM322512ALMA3R3MTAA_C2047622.html
footprint IND-1210 (1210 (3225M) Inductor)
pins: 1, 2

## TFM322512ALMA100MTAA
designator L?  Inductance: 10uH
Inductor, 10uH, ±20%, 305mΩ, 1.2A, SMD 1210; Manufacturer: TDK; Manufacturer Part Number: TFM322512ALMA100MTAA; Saturation Current: 1.6A; Package Size: 1210; JLCPCB Basic Part: No; JLCPCB Part Number: C2047632; Supplier 1: LCSC; Category: Inductors; Supplier Part Number 1: C2047632; Tolerance: ±20%; Rated Current: 1.2A; DC Resistance: 305mΩ; RoHS: Yes; ComponentLink1Description: Datasheet; ComponentLink1URL: https://wmsc.lcsc.com/wmsc/upload/file/pdf/v2/lcsc/2304140030_TDK-TFM322512ALMA100MTAA_C2047632.pdf; ComponentLink2Description: JLCPCB Part URL; ComponentLink2URL: https://jlcpcb.com/partdetail/C2047632; ComponentLink3Description: LCSC Part URL; ComponentLink3URL: https://lcsc.com/product-detail/Inductors-SMD_TDK-TDK-TFM322512ALMA100MTAA_C2047632.html
footprint IND-1210 (1210 (3225M) Inductor)
pins: 1, 2

## TFM322512ALVA100MTAA
designator L?  Inductance: 10uH
Inductor, 10uH, ±20%, 305mΩ, 1.4A, SMD 1210; Manufacturer: TDK; Manufacturer Part Number: TFM322512ALVA100MTAA; Saturation Current: 1.6A; Package Size: 1210; JLCPCB Basic Part: No; JLCPCB Part Number: C1882517; Supplier 1: LCSC; Category: Inductors; Supplier Part Number 1: C1882517; Tolerance: ±20%; Rated Current: 1.4A; DC Resistance: 305mΩ; RoHS: Yes; ComponentLink1Description: Datasheet; ComponentLink1URL: https://wmsc.lcsc.com/wmsc/upload/file/pdf/v2/lcsc/2304140030_TDK-TFM322512ALVA100MTAA_C1882517.pdf; ComponentLink2Description: JLCPCB Part URL; ComponentLink2URL: https://jlcpcb.com/partdetail/C1882517; ComponentLink3Description: LCSC Part URL; ComponentLink3URL: https://lcsc.com/product-detail/Inductors-SMD_TDK-TDK-TFM322512ALVA100MTAA_C1882517.html
footprint IND-1210 (1210 (3225M) Inductor)
pins: 1, 2